# Altium schematic symbol library cherry_mx_switch.SchLib: 2 symbols
Pins are listed as number, name and electrical type; pins without a type are passive.

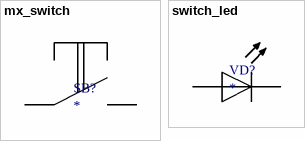
[diagram p0: symbols mx_switch to switch_led]

## mx_switch
designator SB?
footprint cherry_mx_5pin_led
footprint cherry_mx_5pin_led
pins: 1, 2

## switch_led
designator VD?
footprint switch_led
pins: 3, 4